# Altium footprint library LCD SOCKET.PcbLib: 1 footprints
Each footprint in its own frame and in the unit in brackets; x right, y up, seen from the top. Pads: shape width x height; smd on the part's side, far side on the other; paste and mask are expansions set on the pad; w line width, h text height; cw(c..) or ccw(c..) is an arc to the next point about the centre after c.
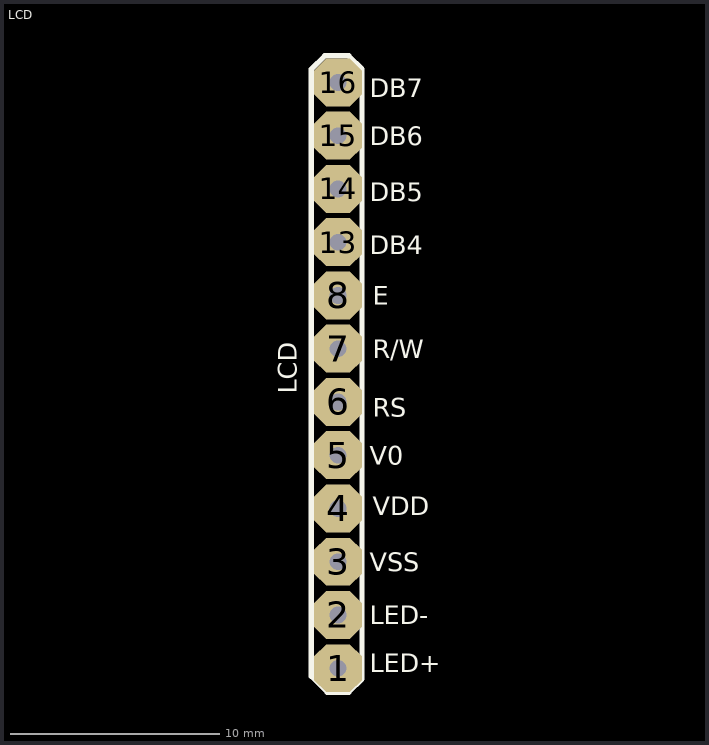
[diagram p0: the footprint, top view; thin cyan lines are the x and y axes]

## LCD [mil]
pads (12):
  oct 90x90 hole 31.5: 1(-31485,-22160) 2(-31485,-22060) 3(-31485,-21960) 4(-31485,-21860) 5(-31485,-21760) 6(-31485,-21660) 7(-31485,-21560) 8(-31485,-21460) 13(-31485,-21360) 14(-31485,-21260) 15(-31485,-21160) 16(-31485,-21060)
Top Overlay:
  lines w10: -31535,-22175 -31505,-22205 -31500,-22205 -31465,-22205 -31440,-22180 -31440,-21035 -31465,-21010 -31510,-21010 -31535,-21035 -31535,-22175
  text "DB7" at -31425,-21100 h60
  text "DB6" at -31425,-21190 h60
  text "DB5" at -31425,-21295 h60
  text "DB4" at -31425,-21395 h60
  text "E" at -31420,-21490 h60
  text "R/W" at -31420,-21590 h60
  text "RS" at -31420,-21700 h60
  text "V0" at -31425,-21790 h60
  text "VDD" at -31420,-21885 h60
  text "VSS" at -31425,-21990 h60
  text "LED+" at -31425,-22180 h60
  text "LED-" at -31425,-22090 h60
  text "LCD" at -31550,-21645 h60